# Altium schematic symbol library 19_2_coupled_PP0.SCHLIB: 8 symbols
Pins are listed as number, name and electrical type; pins without a type are passive.

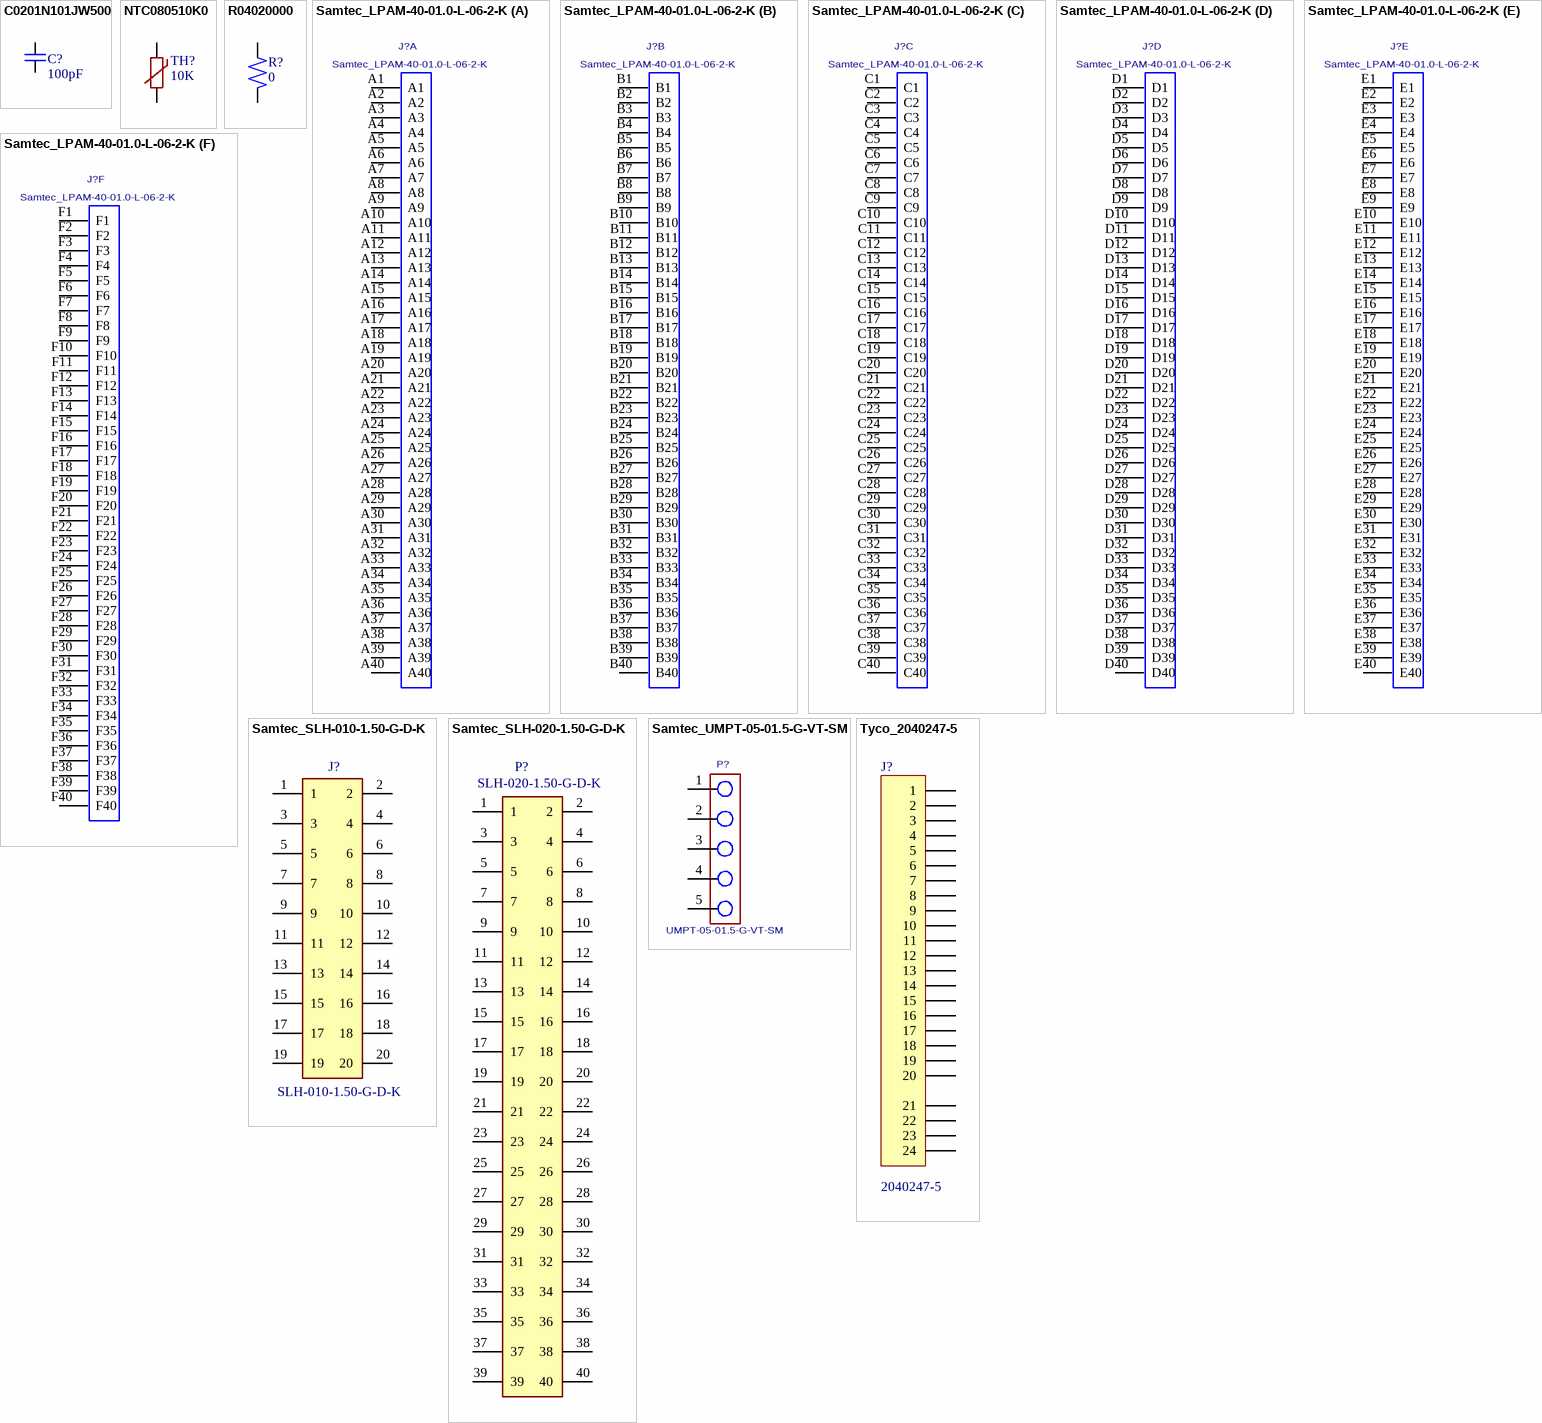
[diagram p0: symbols C0201N101JW500 to Tyco_2040247-5]

## C0201N101JW500
designator C?, comment 100pF
PPI, 0201N101JW500; CAP. 100pF 50V 5%, SM0201; Voltage: 500V; Unit_Price_Static: 2.00; Manufacturer: PPI; PartNumber: 0201N101JW500; Tolerance: 5%; ComponentLink1Description: Datasheet; ComponentLink1URL: V:\CD\Altium\Datasheets\Capacitors\Kemet\Ceramic Chip Capacitor.pdf; Manufacturer Part Number: 0201N101JW500; Package / Case: SM0201; Value: 100pF
simulation model Capacitor (Builtin Model)
footprint SM0201
pins: 1, 2

## NTC080510K0
designator TH?, comment 10K
TE; NTC0805J10K, Thermister NTC 10K 5% 2-Pin, SM0805; Manufacturer: TE Connectivity; Unit_Price_Static: 0.75; Package / Case: SM0805; Manufacturer Part Number: NTC0805J10K; Tolerance: 5%; Value: 10K
footprint SM0805
pins: 1 N1, 2 N2

## R04020000
designator R?, comment 0
Vishay; CRCW04020000Z0ED, CHIP RESISTOR, 0 OHMS 1%, SM0402; Unit_price_Static: 0.01; Manufacturer: VISHAY; Package / Case: SM0402; Manufacturer Part Number: CRCW04020000Z0ED; TOLERANCE: 1%; VALUE: 0
footprint SM0402
pins: 1 N1, 2 N2

## Samtec_LPAM-40-01.0-L-06-2-K
designator J?
Samtec; LPAM-40-01.0-L-06-2-K, Connector 240Pin Male, LPAM_240Pin_V; Manufacturer Part Number: LPAM-04-01.0-L-06-2-K; Unit_Price_Static: 10.00; MANUFACTURER: SAMTEC; Package / Case: LPAM-240Pin_V
footprint Samtec_LPAM_240Pin_V
part A pins: A1, A2, A3, A4, A5, A6, A7, A8, A9, A10, A11, A12, A13, A14, A15, A16, A17, A18, A19, A20, A21, A22, A23, A24, A25, A26, A27, A28, A29, A30, A31, A32, A33, A34, A35, A36, A37, A38, A39, A40
part B pins: B1, B2, B3, B4, B5, B6, B7, B8, B9, B10, B11, B12, B13, B14, B15, B16, B17, B18, B19, B20, B21, B22, B23, B24, B25, B26, B27, B28, B29, B30, B31, B32, B33, B34, B35, B36, B37, B38, B39, B40
part C pins: C1, C2, C3, C4, C5, C6, C7, C8, C9, C10, C11, C12, C13, C14, C15, C16, C17, C18, C19, C20, C21, C22, C23, C24, C25, C26, C27, C28, C29, C30, C31, C32, C33, C34, C35, C36, C37, C38, C39, C40
part D pins: D1, D2, D3, D4, D5, D6, D7, D8, D9, D10, D11, D12, D13, D14, D15, D16, D17, D18, D19, D20, D21, D22, D23, D24, D25, D26, D27, D28, D29, D30, D31, D32, D33, D34, D35, D36, D37, D38, D39, D40
part E pins: E1, E2, E3, E4, E5, E6, E7, E8, E9, E10, E11, E12, E13, E14, E15, E16, E17, E18, E19, E20, E21, E22, E23, E24, E25, E26, E27, E28, E29, E30, E31, E32, E33, E34, E35, E36, E37, E38, E39, E40
part F pins: F1, F2, F3, F4, F5, F6, F7, F8, F9, F10, F11, F12, F13, F14, F15, F16, F17, F18, F19, F20, F21, F22, F23, F24, F25, F26, F27, F28, F29, F30, F31, F32, F33, F34, F35, F36, F37, F38, F39, F40

## Samtec_SLH-010-1.50-G-D-K
designator J?, comment SLH-010-1.50-G-D-K
Samtec; SLH-010-1.50-G-D-K, Connetor 20-Pin SMD; Unit_Price_Static: 2.00; Value: SLH-010-1.50-G-D-K; Manufacturer: Samtec; Package / Case: Samtec_SLH-010-1.50-G-D-K; Manufacturer Part Number: SLH-010-1.50-G-D-K
footprint Samtec_SLH-010-1.50-G-D-K (Samtec_40 pin SMT connector)
pins: 1, 2 (power), 3 (power), 4 (power), 5 (power), 6 (power), 7 (power), 8 (power), 9 (power), 10 (power), 11, 12 (power), 13 (power), 14 (power), 15 (power), 16 (power), 17 (power), 18 (power), 19 (power), 20 (power)

## Samtec_SLH-020-1.50-G-D-K
designator P?, comment SLH-020-1.50-G-D-K
Samtec; SLH-020-1.50-G-D-K, Connetor 40-Pin SMD; Unit_Price_Static: 5.00; Manufacturer: Samtec; Manufacturer Part Number: SLH-020-1.50-G-D-K; Package / Case: Samtec_SLH-020-1.50-G-D-K; Value: SLH-020-1.50-G-D-K
footprint Samtec_SLH-020-1.50-G-D-K (Samtec_40 pin SMT connector)
pins: 1, 2 (power), 3 (power), 4 (power), 5 (power), 6 (power), 7 (power), 8 (power), 9 (power), 10 (power), 11, 12 (power), 13 (power), 14 (power), 15 (power), 16 (power), 17 (power), 18 (power), 19 (power), 20 (power), 21, 22 (power), 23 (power), 24 (power), 25 (power), 26 (power), 27 (power), 28 (power), 29 (power), 30 (power), 31, 32 (power), 33 (power), 34 (power), 35 (power), 36 (power), 37 (power), 38 (power), 39 (power), 40 (power)

## Samtec_UMPT-05-01.5-G-VT-SM
designator P?, comment UMPT-05-01.5-G-VT-SM
Samtec; UMPT-05-01.5-G-VT-SM, Male Connector 5-Pin, UMPT_5P_V; Unit_Price_Static: 2.00; MANUFACTURER: SAMTEC; Manufacturer Part Number: UMPT-05-01.5-G-VT-SM; Package / Case: Samtec_UMPT_5P_V
footprint Samtec_UMPT_5P_V
pins: 1, 2, 3, 4, 5

## Tyco_2040247-5
designator J?, comment 2040247-5
Tyco; 2040247-5, Display Port Right Angle SMT, Tyco_2040247-5; Unit_Price_Static: 1.00; Manufacturer: TYCO; Package / Case: Tyco_2040247-5; Manufacturer Part Number: 2040247-5; ComponentLink: http://cnctech.us/pdfs/3220-XX-0300-00.pdf
footprint Tyco_2040247-5
pins: 1, 2, 3, 4, 5, 6, 7, 8, 9, 10, 11, 12, 13, 14, 15, 16, 17, 18, 19, 20, 21, 22, 23, 24